# Altium footprint library Interface_I2C.PcbLib: 99 footprints (part 2 of 7)
Each footprint in its own frame and in the unit in brackets; x right, y up, seen from the top. Pads: shape width x height; smd on the part's side, far side on the other; paste and mask are expansions set on the pad; w line width, h text height; cw(c..) or ccw(c..) is an arc to the next point about the centre after c.
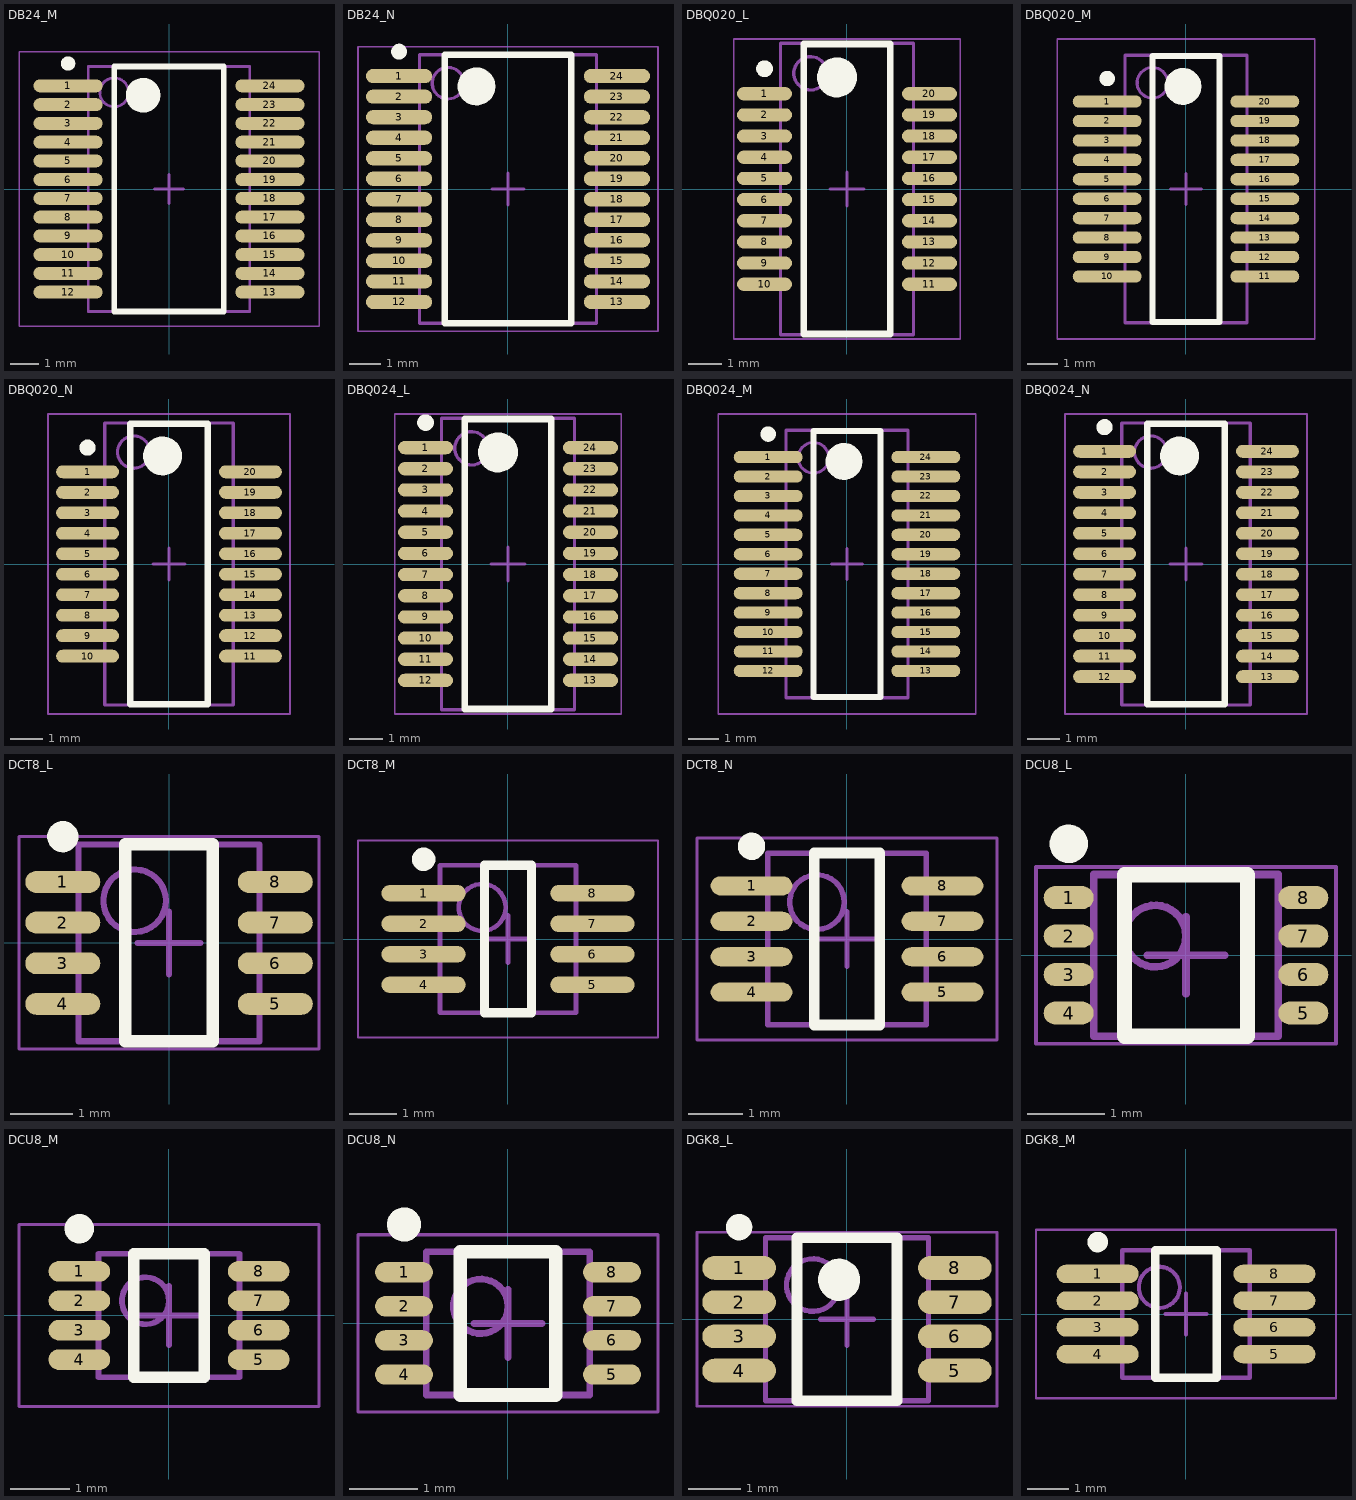
[diagram p1: the footprints below, top view; thin cyan lines are the x and y axes]

## DB24_M [mm] "SOP, 24-Leads, Body 8.2x5.3mm, Pitch 0.65mm, IPC Low Density"
height 2
pads (24):
  oval 2.4x0.45 smd: 1(-3.5,3.575) 2(-3.5,2.925) 3(-3.5,2.275) 4(-3.5,1.625) 5(-3.5,0.975) 6(-3.5,0.325) 7(-3.5,-0.325) 8(-3.5,-0.975) 9(-3.5,-1.625) 10(-3.5,-2.275) 11(-3.5,-2.925) 12(-3.5,-3.575) 13(3.5,-3.575) 14(3.5,-2.925) 15(3.5,-2.275) 16(3.5,-1.625) 17(3.5,-0.975) 18(3.5,-0.325) 19(3.5,0.325) 20(3.5,0.975) 21(3.5,1.625) 22(3.5,2.275) 23(3.5,2.925) 24(3.5,3.575)
Top Overlay:
  circle w0.25: c-3.5,4.35 r0.125
  circle w0.6: c-0.9,3.25 r0.3
  lines w0.2: -1.9,-4.25 -1.9,4.25 1.9,4.25 1.9,-4.25 -1.9,-4.25
Mechanical 13:
  circle w0.1: c-1.9,3.35 r0.5
  lines w0.1: -2.8,-4.25 -2.8,4.25 2.8,4.25 2.8,-4.25 -2.8,-4.25
Mechanical 15:
  lines w0.05: -5.2,-4.75 -5.2,4.75 5.2,4.75 5.2,-4.75 -5.2,-4.75
  lines w0.1: -0.5,0 0.5,0 ; 0,-0.5 0,0.5
3D body: height 2, standoff 0.05, extent -2.8,-4.25 2.8,4.25

## DB24_N [mm] "SOP, 24-Leads, Body 8.2x5.3mm, Pitch 0.65mm, IPC Medium Density"
height 2
pads (24):
  oval 2.1x0.45 smd: 1(-3.45,3.575) 2(-3.45,2.925) 3(-3.45,2.275) 4(-3.45,1.625) 5(-3.45,0.975) 6(-3.45,0.325) 7(-3.45,-0.325) 8(-3.45,-0.975) 9(-3.45,-1.625) 10(-3.45,-2.275) 11(-3.45,-2.925) 12(-3.45,-3.575) 13(3.45,-3.575) 14(3.45,-2.925) 15(3.45,-2.275) 16(3.45,-1.625) 17(3.45,-0.975) 18(3.45,-0.325) 19(3.45,0.325) 20(3.45,0.975) 21(3.45,1.625) 22(3.45,2.275) 23(3.45,2.925) 24(3.45,3.575)
Top Overlay:
  circle w0.25: c-3.45,4.35 r0.125
  circle w0.6: c-1,3.25 r0.3
  lines w0.2: -2,-4.25 -2,4.25 2,4.25 2,-4.25 -2,-4.25
Mechanical 13:
  circle w0.1: c-1.9,3.35 r0.5
  lines w0.1: -2.8,-4.25 -2.8,4.25 2.8,4.25 2.8,-4.25 -2.8,-4.25
Mechanical 15:
  lines w0.05: -4.75,-4.5 -4.75,4.5 4.75,4.5 4.75,-4.5 -4.75,-4.5
  lines w0.1: -0.5,0 0.5,0 ; 0,-0.5 0,0.5
3D body: height 2, standoff 0.05, extent -2.8,-4.25 2.8,4.25

## DBQ020_L [mm] "SOP, 20-Leads, Body 8.7x3.9mm, Pitch 0.635mm, IPC High Density"
height 1.75
pads (20):
  oval 1.65x0.4 smd: 1(-2.475,2.857) 2(-2.475,2.222) 3(-2.475,1.587) 4(-2.475,0.953) 5(-2.475,0.318) 6(-2.475,-0.318) 7(-2.475,-0.953) 8(-2.475,-1.587) 9(-2.475,-2.222) 10(-2.475,-2.857) 11(2.475,-2.857) 12(2.475,-2.222) 13(2.475,-1.587) 14(2.475,-0.953) 15(2.475,-0.318) 16(2.475,0.318) 17(2.475,0.953) 18(2.475,1.587) 19(2.475,2.222) 20(2.475,2.857)
Top Overlay:
  circle w0.6: c-0.3,3.35 r0.3
  circle w0.25: c-2.475,3.608 r0.125
  lines w0.2: -1.3,-4.35 1.3,-4.35 1.3,4.35 -1.3,4.35 -1.3,-4.35
Mechanical 13:
  circle w0.1: c-1.095,3.47 r0.5
  lines w0.1: -1.995,-4.37 1.995,-4.37 1.995,4.37 -1.995,4.37 -1.995,-4.37
Mechanical 15:
  lines w0.05: -3.4,-4.5 3.4,-4.5 3.4,4.5 -3.4,4.5 -3.4,-4.5
  lines w0.1: -0.5,0 0.5,0 ; 0,-0.5 0,0.5
3D body: height 1.75, standoff 0.1, extent -1.995,-4.37 1.995,4.37

## DBQ020_M [mm] "SOP, 20-Leads, Body 8.7x3.9mm, Pitch 0.635mm, IPC Low Density"
height 1.75
pads (20):
  oval 2.25x0.4 smd: 1(-2.575,2.857) 2(-2.575,2.222) 3(-2.575,1.587) 4(-2.575,0.953) 5(-2.575,0.318) 6(-2.575,-0.318) 7(-2.575,-0.953) 8(-2.575,-1.587) 9(-2.575,-2.222) 10(-2.575,-2.857) 11(2.575,-2.857) 12(2.575,-2.222) 13(2.575,-1.587) 14(2.575,-0.953) 15(2.575,-0.318) 16(2.575,0.318) 17(2.575,0.953) 18(2.575,1.587) 19(2.575,2.222) 20(2.575,2.857)
Top Overlay:
  circle w0.6: c-0.1,3.35 r0.3
  circle w0.25: c-2.575,3.608 r0.125
  lines w0.2: -1.1,-4.35 1.1,-4.35 1.1,4.35 -1.1,4.35 -1.1,-4.35
Mechanical 13:
  circle w0.1: c-1.095,3.47 r0.5
  lines w0.1: -1.995,-4.37 1.995,-4.37 1.995,4.37 -1.995,4.37 -1.995,-4.37
Mechanical 15:
  lines w0.05: -4.2,-4.9 4.2,-4.9 4.2,4.9 -4.2,4.9 -4.2,-4.9
  lines w0.1: -0.5,0 0.5,0 ; 0,-0.5 0,0.5
3D body: height 1.75, standoff 0.1, extent -1.995,-4.37 1.995,4.37

## DBQ020_N [mm] "SOP, 20-Leads, Body 8.7x3.9mm, Pitch 0.635mm, IPC Medium Density"
height 1.75
pads (20):
  oval 1.95x0.4 smd: 1(-2.525,2.857) 2(-2.525,2.222) 3(-2.525,1.587) 4(-2.525,0.953) 5(-2.525,0.318) 6(-2.525,-0.318) 7(-2.525,-0.953) 8(-2.525,-1.587) 9(-2.525,-2.222) 10(-2.525,-2.857) 11(2.525,-2.857) 12(2.525,-2.222) 13(2.525,-1.587) 14(2.525,-0.953) 15(2.525,-0.318) 16(2.525,0.318) 17(2.525,0.953) 18(2.525,1.587) 19(2.525,2.222) 20(2.525,2.857)
Top Overlay:
  circle w0.6: c-0.2,3.35 r0.3
  circle w0.25: c-2.525,3.608 r0.125
  lines w0.2: -1.2,-4.35 1.2,-4.35 1.2,4.35 -1.2,4.35 -1.2,-4.35
Mechanical 13:
  circle w0.1: c-1.095,3.47 r0.5
  lines w0.1: -1.995,-4.37 1.995,-4.37 1.995,4.37 -1.995,4.37 -1.995,-4.37
Mechanical 15:
  lines w0.05: -3.75,-4.65 3.75,-4.65 3.75,4.65 -3.75,4.65 -3.75,-4.65
  lines w0.1: -0.5,0 0.5,0 ; 0,-0.5 0,0.5
3D body: height 1.75, standoff 0.1, extent -1.995,-4.37 1.995,4.37

## DBQ024_L [mm] "SOP, 24-Leads, Body 8.7x3.9mm, Pitch 0.635mm, IPC High Density"
height 1.75
pads (24):
  oval 1.65x0.4 smd: 1(-2.475,3.492) 2(-2.475,2.857) 3(-2.475,2.222) 4(-2.475,1.587) 5(-2.475,0.953) 6(-2.475,0.318) 7(-2.475,-0.318) 8(-2.475,-0.953) 9(-2.475,-1.587) 10(-2.475,-2.222) 11(-2.475,-2.857) 12(-2.475,-3.492) 13(2.475,-3.492) 14(2.475,-2.857) 15(2.475,-2.222) 16(2.475,-1.587) 17(2.475,-0.953) 18(2.475,-0.318) 19(2.475,0.318) 20(2.475,0.953) 21(2.475,1.587) 22(2.475,2.222) 23(2.475,2.857) 24(2.475,3.492)
Top Overlay:
  circle w0.6: c-0.3,3.35 r0.3
  circle w0.25: c-2.475,4.243 r0.125
  lines w0.2: -1.3,-4.35 1.3,-4.35 1.3,4.35 -1.3,4.35 -1.3,-4.35
Mechanical 13:
  circle w0.1: c-1.095,3.47 r0.5
  lines w0.1: -1.995,-4.37 1.995,-4.37 1.995,4.37 -1.995,4.37 -1.995,-4.37
Mechanical 15:
  lines w0.05: -3.4,-4.5 3.4,-4.5 3.4,4.5 -3.4,4.5 -3.4,-4.5
  lines w0.1: -0.5,0 0.5,0 ; 0,-0.5 0,0.5
3D body: height 1.75, standoff 0.1, extent -1.995,-4.37 1.995,4.37

## DBQ024_M [mm] "SOP, 24-Leads, Body 8.7x3.9mm, Pitch 0.635mm, IPC Low Density"
height 1.75
pads (24):
  oval 2.25x0.4 smd: 1(-2.575,3.492) 2(-2.575,2.857) 3(-2.575,2.222) 4(-2.575,1.587) 5(-2.575,0.953) 6(-2.575,0.318) 7(-2.575,-0.318) 8(-2.575,-0.953) 9(-2.575,-1.587) 10(-2.575,-2.222) 11(-2.575,-2.857) 12(-2.575,-3.492) 13(2.575,-3.492) 14(2.575,-2.857) 15(2.575,-2.222) 16(2.575,-1.587) 17(2.575,-0.953) 18(2.575,-0.318) 19(2.575,0.318) 20(2.575,0.953) 21(2.575,1.587) 22(2.575,2.222) 23(2.575,2.857) 24(2.575,3.492)
Top Overlay:
  circle w0.6: c-0.1,3.35 r0.3
  circle w0.25: c-2.575,4.243 r0.125
  lines w0.2: -1.1,-4.35 1.1,-4.35 1.1,4.35 -1.1,4.35 -1.1,-4.35
Mechanical 13:
  circle w0.1: c-1.095,3.47 r0.5
  lines w0.1: -1.995,-4.37 1.995,-4.37 1.995,4.37 -1.995,4.37 -1.995,-4.37
Mechanical 15:
  lines w0.05: -4.2,-4.9 4.2,-4.9 4.2,4.9 -4.2,4.9 -4.2,-4.9
  lines w0.1: -0.5,0 0.5,0 ; 0,-0.5 0,0.5
3D body: height 1.75, standoff 0.1, extent -1.995,-4.37 1.995,4.37

## DBQ024_N [mm] "SOP, 24-Leads, Body 8.7x3.9mm, Pitch 0.635mm, IPC Medium Density"
height 1.75
pads (24):
  oval 1.95x0.4 smd: 1(-2.525,3.492) 2(-2.525,2.857) 3(-2.525,2.222) 4(-2.525,1.587) 5(-2.525,0.953) 6(-2.525,0.318) 7(-2.525,-0.318) 8(-2.525,-0.953) 9(-2.525,-1.587) 10(-2.525,-2.222) 11(-2.525,-2.857) 12(-2.525,-3.492) 13(2.525,-3.492) 14(2.525,-2.857) 15(2.525,-2.222) 16(2.525,-1.587) 17(2.525,-0.953) 18(2.525,-0.318) 19(2.525,0.318) 20(2.525,0.953) 21(2.525,1.587) 22(2.525,2.222) 23(2.525,2.857) 24(2.525,3.492)
Top Overlay:
  circle w0.6: c-0.2,3.35 r0.3
  circle w0.25: c-2.525,4.243 r0.125
  lines w0.2: -1.2,-4.35 1.2,-4.35 1.2,4.35 -1.2,4.35 -1.2,-4.35
Mechanical 13:
  circle w0.1: c-1.095,3.47 r0.5
  lines w0.1: -1.995,-4.37 1.995,-4.37 1.995,4.37 -1.995,4.37 -1.995,-4.37
Mechanical 15:
  lines w0.05: -3.75,-4.65 3.75,-4.65 3.75,4.65 -3.75,4.65 -3.75,-4.65
  lines w0.1: -0.5,0 0.5,0 ; 0,-0.5 0,0.5
3D body: height 1.75, standoff 0.1, extent -1.995,-4.37 1.995,4.37

## DCT8_L [mm] "TSOP, 8-Leads, Body 3x2.8mm, Pitch 0.65mm, IPC High Density"
height 1.3
pads (8):
  oval 1.2x0.35 smd: 1(-1.7,0.975) 2(-1.7,0.325) 3(-1.7,-0.325) 4(-1.7,-0.975) 5(1.7,-0.975) 6(1.7,-0.325) 7(1.7,0.325) 8(1.7,0.975)
Top Overlay:
  circle w0.25: c-1.7,1.7 r0.125
  lines w0.2: -0.7,-1.575 0.7,-1.575 0.7,1.575 -0.7,1.575 -0.7,-1.575
Mechanical 13:
  circle w0.1: c-0.55,0.675 r0.5
  lines w0.1: -1.45,-1.575 1.45,-1.575 1.45,1.575 -1.45,1.575 -1.45,-1.575
Mechanical 15:
  lines w0.05: -2.4,-1.7 2.4,-1.7 2.4,1.7 -2.4,1.7 -2.4,-1.7
  lines w0.1: -0.5,0 0.5,0 ; 0,-0.5 0,0.5
3D body: height 1.3, standoff 0, extent -1.45,-1.575 1.45,1.575

## DCT8_M [mm] "TSOP, 8-Leads, Body 3x2.8mm, Pitch 0.65mm, IPC Low Density"
height 1.3
pads (8):
  oval 1.8x0.35 smd: 1(-1.8,0.975) 2(-1.8,0.325) 3(-1.8,-0.325) 4(-1.8,-0.975) 5(1.8,-0.975) 6(1.8,-0.325) 7(1.8,0.325) 8(1.8,0.975)
Top Overlay:
  circle w0.25: c-1.8,1.7 r0.125
  lines w0.2: -0.5,-1.575 -0.5,1.575 0.5,1.575 0.5,-1.575 -0.5,-1.575
Mechanical 13:
  circle w0.1: c-0.55,0.675 r0.5
  lines w0.1: -1.45,-1.575 -1.45,1.575 1.45,1.575 1.45,-1.575 -1.45,-1.575
Mechanical 15:
  lines w0.05: -3.2,-2.1 -3.2,2.1 3.2,2.1 3.2,-2.1 -3.2,-2.1
  lines w0.1: -0.5,0 0.5,0 ; 0,-0.5 0,0.5
3D body: height 1.3, standoff 0, extent -1.45,-1.575 1.45,1.575

## DCT8_N [mm] "TSOP, 8-Leads, Body 3x2.8mm, Pitch 0.65mm, IPC Medium Density"
height 1.3
pads (8):
  oval 1.5x0.35 smd: 1(-1.75,0.975) 2(-1.75,0.325) 3(-1.75,-0.325) 4(-1.75,-0.975) 5(1.75,-0.975) 6(1.75,-0.325) 7(1.75,0.325) 8(1.75,0.975)
Top Overlay:
  circle w0.25: c-1.75,1.7 r0.125
  lines w0.2: -0.6,-1.575 0.6,-1.575 0.6,1.575 -0.6,1.575 -0.6,-1.575
Mechanical 13:
  circle w0.1: c-0.55,0.675 r0.5
  lines w0.1: -1.45,-1.575 1.45,-1.575 1.45,1.575 -1.45,1.575 -1.45,-1.575
Mechanical 15:
  lines w0.05: -2.75,-1.85 2.75,-1.85 2.75,1.85 -2.75,1.85 -2.75,-1.85
  lines w0.1: -0.5,0 0.5,0 ; 0,-0.5 0,0.5
3D body: height 1.3, standoff 0, extent -1.45,-1.575 1.45,1.575

## DCU8_L [mm] "TSSOP, 8-Leads, Body 2x2.3mm, Pitch 0.5mm, IPC High Density"
height 0.9
pads (8):
  oval 0.65x0.3 smd: 1(-1.525,0.75) 2(-1.525,0.25) 3(-1.525,-0.25) 4(-1.525,-0.75) 5(1.525,-0.75) 6(1.525,-0.25) 7(1.525,0.25) 8(1.525,0.75)
Top Overlay:
  circle w0.25: c-1.525,1.45 r0.125
  lines w0.2: -0.8,-1.05 -0.8,1.05 0.8,1.05 0.8,-1.05 -0.8,-1.05
Mechanical 13:
  circle w0.1: c-0.4,0.25 r0.4
  lines w0.1: -1.2,-1.05 -1.2,1.05 1.2,1.05 1.2,-1.05 -1.2,-1.05
Mechanical 15:
  lines w0.05: -1.95,-1.15 -1.95,1.15 1.95,1.15 1.95,-1.15 -1.95,-1.15
  lines w0.1: -0.5,0 0.5,0 ; 0,-0.5 0,0.5
3D body: height 0.9, standoff 0, extent -1.2,-1.05 1.2,1.05

## DCU8_M [mm] "TSSOP, 8-Leads, Body 2x2.3mm, Pitch 0.5mm, IPC Low Density"
height 0.9
pads (8):
  oval 1.05x0.35 smd: 1(-1.525,0.75) 2(-1.525,0.25) 3(-1.525,-0.25) 4(-1.525,-0.75) 5(1.525,-0.75) 6(1.525,-0.25) 7(1.525,0.25) 8(1.525,0.75)
Top Overlay:
  circle w0.25: c-1.525,1.475 r0.125
  lines w0.2: -0.6,-1.05 -0.6,1.05 0.6,1.05 0.6,-1.05 -0.6,-1.05
Mechanical 13:
  circle w0.1: c-0.4,0.25 r0.4
  lines w0.1: -1.2,-1.05 -1.2,1.05 1.2,1.05 1.2,-1.05 -1.2,-1.05
Mechanical 15:
  lines w0.05: -2.55,-1.55 -2.55,1.55 2.55,1.55 2.55,-1.55 -2.55,-1.55
  lines w0.1: -0.5,0 0.5,0 ; 0,-0.5 0,0.5
3D body: height 0.9, standoff 0, extent -1.2,-1.05 1.2,1.05

## DCU8_N [mm] "TSSOP, 8-Leads, Body 2x2.3mm, Pitch 0.5mm, IPC Medium Density"
height 0.9
pads (8):
  oval 0.85x0.3 smd: 1(-1.525,0.75) 2(-1.525,0.25) 3(-1.525,-0.25) 4(-1.525,-0.75) 5(1.525,-0.75) 6(1.525,-0.25) 7(1.525,0.25) 8(1.525,0.75)
Top Overlay:
  circle w0.25: c-1.525,1.45 r0.125
  lines w0.2: -0.7,-1.05 -0.7,1.05 0.7,1.05 0.7,-1.05 -0.7,-1.05
Mechanical 13:
  circle w0.1: c-0.4,0.25 r0.4
  lines w0.1: -1.2,-1.05 -1.2,1.05 1.2,1.05 1.2,-1.05 -1.2,-1.05
Mechanical 15:
  lines w0.05: -2.2,-1.3 -2.2,1.3 2.2,1.3 2.2,-1.3 -2.2,-1.3
  lines w0.1: -0.5,0 0.5,0 ; 0,-0.5 0,0.5
3D body: height 0.9, standoff 0, extent -1.2,-1.05 1.2,1.05

## DGK8_L [mm] "TSOP, 8-Leads, Body 3x3mm, Pitch 0.65mm, IPC High Density"
height 1.1
pads (8):
  oval 1.4x0.45 smd: 1(-2.05,0.975) 2(-2.05,0.325) 3(-2.05,-0.325) 4(-2.05,-0.975) 5(2.05,-0.975) 6(2.05,-0.325) 7(2.05,0.325) 8(2.05,0.975)
Top Overlay:
  circle w0.4: c-0.15,0.75 r0.2
  circle w0.25: c-2.05,1.75 r0.125
  lines w0.2: -0.95,-1.55 0.95,-1.55 0.95,1.55 -0.95,1.55 -0.95,-1.55
Mechanical 13:
  circle w0.1: c-0.65,0.65 r0.5
  lines w0.1: -1.55,-1.55 1.55,-1.55 1.55,1.55 -1.55,1.55 -1.55,-1.55
Mechanical 15:
  lines w0.05: -2.85,-1.65 2.85,-1.65 2.85,1.65 -2.85,1.65 -2.85,-1.65
  lines w0.1: -0.5,0 0.5,0 ; 0,-0.5 0,0.5
3D body: height 1.1, standoff 0.05, extent -1.55,-1.55 1.55,1.55

## DGK8_M [mm] "TSOP, 8-Leads, Body 3x3mm, Pitch 0.65mm, IPC Low Density"
height 1.1
pads (8):
  oval 2x0.45 smd: 1(-2.15,0.975) 2(-2.15,0.325) 3(-2.15,-0.325) 4(-2.15,-0.975) 5(2.15,-0.975) 6(2.15,-0.325) 7(2.15,0.325) 8(2.15,0.975)
Top Overlay:
  circle w0.25: c-2.15,1.75 r0.125
  lines w0.2: -0.75,-1.55 -0.75,1.55 0.75,1.55 0.75,-1.55 -0.75,-1.55
Mechanical 13:
  circle w0.1: c-0.65,0.65 r0.5
  lines w0.1: -1.55,-1.55 -1.55,1.55 1.55,1.55 1.55,-1.55 -1.55,-1.55
Mechanical 15:
  lines w0.05: -3.65,-2.05 -3.65,2.05 3.65,2.05 3.65,-2.05 -3.65,-2.05
  lines w0.1: -0.5,0 0.5,0 ; 0,-0.5 0,0.5
3D body: height 1.1, standoff 0.05, extent -1.55,-1.55 1.55,1.55